# Altium integrated library Libreria-Diodos.IntLib: 24 symbols
Pins are listed as number, name and electrical type; pins without a type are passive.

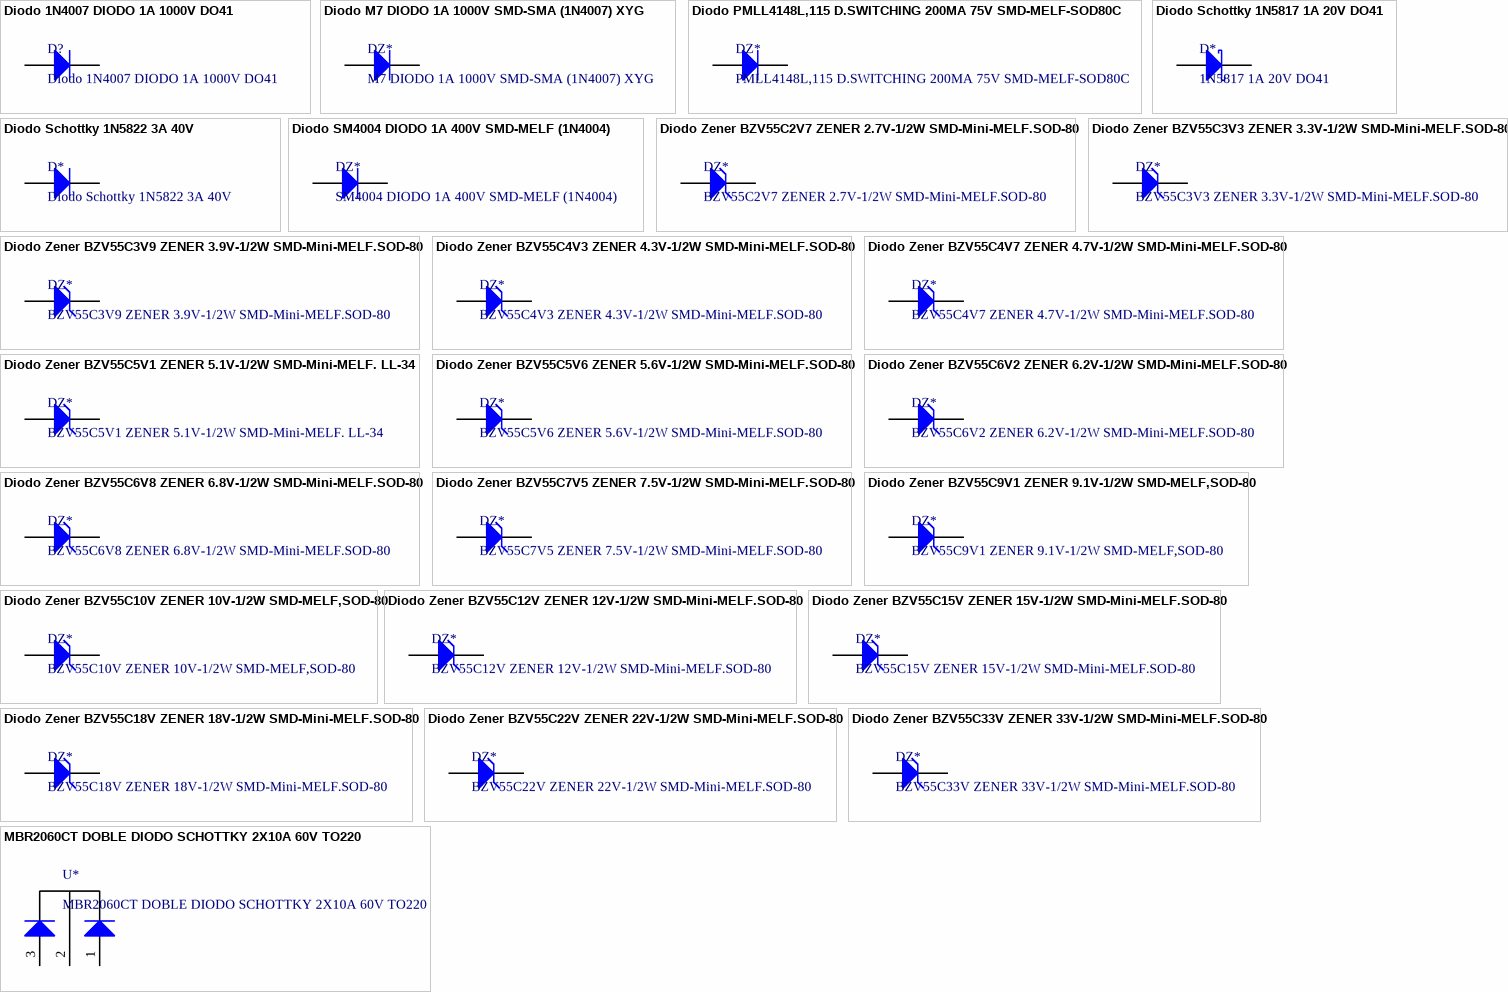
[diagram p0: symbols Diodo 1N4007 DIODO 1A 1000V DO41 to MBR2060CT DOBLE DIODO SCHOTTKY 2X10A 60V TO220]

## Diodo 1N4007 DIODO 1A 1000V DO41
designator D?
COD. ELEMON: DI1152060
footprint Diode DO41
pins: A, K

## Diodo M7 DIODO 1A 1000V SMD-SMA (1N4007) XYG
designator DZ*, comment M7 DIODO 1A 1000V SMD-SMA (1N4007) XYG
COD. ELEMON: DI1202221
footprint Diode-SMD-SMA
pins: A, K

## Diodo PMLL4148L,115 D.SWITCHING 200MA 75V SMD-MELF-SOD80C
designator DZ*, comment PMLL4148L,115 D.SWITCHING 200MA 75V SMD-MELF-SOD80C
COD. ELEMON: DI1202041
footprint DIODO.SMD (1/2W SMD-Mini-MELF.SOD-80)
pins: A, K

## Diodo Schottky 1N5817 1A 20V DO41
designator D*, comment 1N5817 1A 20V DO41
Diodo Schottky 1N5817 1A 20V DO41; COD. ELEMON: DI1354200
footprint Diode DO41
pins: A, K

## Diodo Schottky 1N5822 3A 40V
designator D*
COD. FV: CE.DIO.0002
footprint Diode 1N5822
pins: A, K

## Diodo SM4004 DIODO 1A 400V SMD-MELF (1N4004)
designator DZ*, comment SM4004 DIODO 1A 400V SMD-MELF (1N4004)
COD. ELEMON: DI1202090
footprint DIODO.SMD (1/2W SMD-Mini-MELF.SOD-80)
pins: A, K

## Diodo Zener BZV55C2V7 ZENER 2.7V-1/2W SMD-Mini-MELF.SOD-80
designator DZ*, comment BZV55C2V7 ZENER 2.7V-1/2W SMD-Mini-MELF.SOD-80
COD. ELEMON: DI1091975
footprint DIODO.SMD (1/2W SMD-Mini-MELF.SOD-80)
pins: A, K

## Diodo Zener BZV55C3V3 ZENER 3.3V-1/2W SMD-Mini-MELF.SOD-80
designator DZ*, comment BZV55C3V3 ZENER 3.3V-1/2W SMD-Mini-MELF.SOD-80
COD. ELEMON: DI1091985
footprint DIODO.SMD (1/2W SMD-Mini-MELF.SOD-80)
pins: A, K

## Diodo Zener BZV55C3V9 ZENER 3.9V-1/2W SMD-Mini-MELF.SOD-80
designator DZ*, comment BZV55C3V9 ZENER 3.9V-1/2W SMD-Mini-MELF.SOD-80
COD. ELEMON: DI1091995
footprint DIODO.SMD (1/2W SMD-Mini-MELF.SOD-80)
pins: A, K

## Diodo Zener BZV55C4V3 ZENER 4.3V-1/2W SMD-Mini-MELF.SOD-80
designator DZ*, comment BZV55C4V3 ZENER 4.3V-1/2W SMD-Mini-MELF.SOD-80
COD. ELEMON: DI1091998
footprint DIODO.SMD (1/2W SMD-Mini-MELF.SOD-80)
pins: A, K

## Diodo Zener BZV55C4V7 ZENER 4.7V-1/2W SMD-Mini-MELF.SOD-80
designator DZ*, comment BZV55C4V7 ZENER 4.7V-1/2W SMD-Mini-MELF.SOD-80
COD. ELEMON: DI1092005; COD. FV: CE.DIO.0004
footprint DIODO.SMD (1/2W SMD-Mini-MELF.SOD-80)
pins: A, K

## Diodo Zener BZV55C5V1 ZENER 5.1V-1/2W SMD-Mini-MELF. LL-34
designator DZ*, comment BZV55C5V1 ZENER 5.1V-1/2W SMD-Mini-MELF. LL-34
COD. ELEMON: DI1092017
footprint DIODO.SMD (1/2W SMD-Mini-MELF.SOD-80)
pins: A, K

## Diodo Zener BZV55C5V6 ZENER 5.6V-1/2W SMD-Mini-MELF.SOD-80
designator DZ*, comment BZV55C5V6 ZENER 5.6V-1/2W SMD-Mini-MELF.SOD-80
COD. ELEMON: DI1092020
footprint DIODO.SMD (1/2W SMD-Mini-MELF.SOD-80)
pins: A, K

## Diodo Zener BZV55C6V2 ZENER 6.2V-1/2W SMD-Mini-MELF.SOD-80
designator DZ*, comment BZV55C6V2 ZENER 6.2V-1/2W SMD-Mini-MELF.SOD-80
COD. ELEMON: DI1092035
footprint DIODO.SMD (1/2W SMD-Mini-MELF.SOD-80)
pins: A, K

## Diodo Zener BZV55C6V8 ZENER 6.8V-1/2W SMD-Mini-MELF.SOD-80
designator DZ*, comment BZV55C6V8 ZENER 6.8V-1/2W SMD-Mini-MELF.SOD-80
COD. ELEMON: DI1092050
footprint DIODO.SMD (1/2W SMD-Mini-MELF.SOD-80)
pins: A, K

## Diodo Zener BZV55C7V5 ZENER 7.5V-1/2W SMD-Mini-MELF.SOD-80
designator DZ*, comment BZV55C7V5 ZENER 7.5V-1/2W SMD-Mini-MELF.SOD-80
COD. ELEMON: DI1092065
footprint DIODO.SMD (1/2W SMD-Mini-MELF.SOD-80)
pins: A, K

## Diodo Zener BZV55C9V1 ZENER 9.1V-1/2W SMD-MELF,SOD-80
designator DZ*, comment BZV55C9V1 ZENER 9.1V-1/2W SMD-MELF,SOD-80
COD. ELEMON: DI1092095
footprint DIODO.SMD (1/2W SMD-Mini-MELF.SOD-80)
pins: A, K

## Diodo Zener BZV55C10V ZENER 10V-1/2W SMD-MELF,SOD-80
designator DZ*, comment BZV55C10V ZENER 10V-1/2W SMD-MELF,SOD-80
COD. ELEMON: DI1092100
footprint DIODO.SMD (1/2W SMD-Mini-MELF.SOD-80)
pins: A, K

## Diodo Zener BZV55C12V ZENER 12V-1/2W SMD-Mini-MELF.SOD-80
designator DZ*, comment BZV55C12V ZENER 12V-1/2W SMD-Mini-MELF.SOD-80
COD. ELEMON: DI1092125
footprint DIODO.SMD (1/2W SMD-Mini-MELF.SOD-80)
pins: A, K

## Diodo Zener BZV55C15V ZENER 15V-1/2W SMD-Mini-MELF.SOD-80
designator DZ*, comment BZV55C15V ZENER 15V-1/2W SMD-Mini-MELF.SOD-80
COD. ELEMON: DI1092145
footprint DIODO.SMD (1/2W SMD-Mini-MELF.SOD-80)
pins: A, K

## Diodo Zener BZV55C18V ZENER 18V-1/2W SMD-Mini-MELF.SOD-80
designator DZ*, comment BZV55C18V ZENER 18V-1/2W SMD-Mini-MELF.SOD-80
COD. ELEMON: DI1092165
footprint DIODO.SMD (1/2W SMD-Mini-MELF.SOD-80)
pins: A, K

## Diodo Zener BZV55C22V ZENER 22V-1/2W SMD-Mini-MELF.SOD-80
designator DZ*, comment BZV55C22V ZENER 22V-1/2W SMD-Mini-MELF.SOD-80
COD. ELEMON: DI1092210
footprint DIODO.SMD (1/2W SMD-Mini-MELF.SOD-80)
pins: A, K

## Diodo Zener BZV55C33V ZENER 33V-1/2W SMD-Mini-MELF.SOD-80
designator DZ*, comment BZV55C33V ZENER 33V-1/2W SMD-Mini-MELF.SOD-80
COD. ELEMON: DI1092260
footprint DIODO.SMD (1/2W SMD-Mini-MELF.SOD-80)
pins: A, K

## MBR2060CT DOBLE DIODO SCHOTTKY 2X10A 60V TO220
designator U*
COD. ELEMON: DI1357220; COD. FV: CE.DIO.0003
footprint MBR2060CT (MBR2060CT DOBLE DIODO SCHOTTKY 2X10A 60V TO220)
pins: 1, 2, 2, 2, 3